# Altium footprint library LCM.PcbLib: 3 footprints
Each footprint in its own frame and in the unit in brackets; x right, y up, seen from the top. Pads: shape width x height; smd on the part's side, far side on the other; paste and mask are expansions set on the pad; w line width, h text height; cw(c..) or ccw(c..) is an arc to the next point about the centre after c.
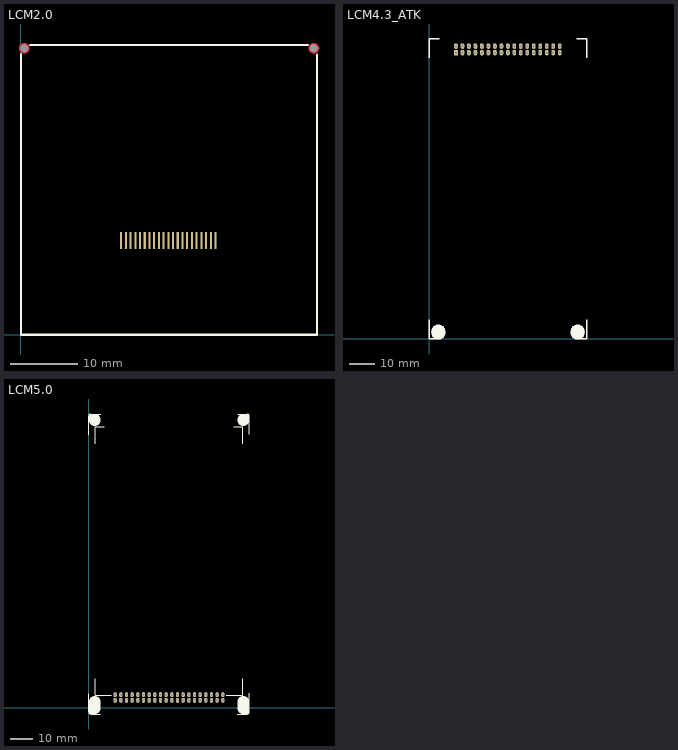
[diagram p0: the footprints below, top view; thin cyan lines are the x and y axes]

## LCM2.0 [mm]
pads (21):
  rect 0.3x2.5 smd: 1(28.9,14) 2(28.2,14) 3(27.5,14) 4(26.8,14) 5(26.1,14) 6(25.4,14) 7(24.7,14) 8(24,14) 9(23.3,14) 10(22.6,14) 11(21.9,14) 12(21.2,14) 13(20.5,14) 14(19.8,14) 15(19.1,14) 16(18.4,14) 17(17.7,14) 18(17,14) 19(16.3,14) 20(15.6,14) 21(14.9,14)
via 43.5,42.5 diameter 1.1 hole 1.1
via 0.5,42.5 diameter 1.1 hole 1.1
Top Layer:
  pour cut-out: 43.5,43.262 43.575,43.262 43.722,43.233 43.861,43.175 43.986,43.092 44.092,42.986 44.175,42.861 44.233,42.722 44.262,42.575 44.262,42.5 44.262,42.425 44.233,42.278 44.175,42.139 44.092,42.014 43.986,41.908 43.861,41.825 43.722,41.767 43.575,41.738 43.5,41.738 43.425,41.738 43.278,41.767 43.139,41.825 43.014,41.908 42.908,42.014 42.825,42.139 42.767,42.278 42.738,42.425 42.738,42.5 42.738,42.575 42.767,42.722 42.825,42.861 42.908,42.986 43.014,43.092 43.139,43.175 43.278,43.233 43.425,43.262
  pour cut-out: 0.5,43.262 0.575,43.262 0.722,43.233 0.861,43.175 0.986,43.092 1.092,42.986 1.175,42.861 1.233,42.722 1.262,42.575 1.262,42.5 1.262,42.425 1.233,42.278 1.175,42.139 1.092,42.014 0.986,41.908 0.861,41.825 0.722,41.767 0.575,41.738 0.5,41.738 0.425,41.738 0.278,41.767 0.139,41.825 0.014,41.908 -0.092,42.014 -0.175,42.139 -0.233,42.278 -0.262,42.425 -0.262,42.5 -0.262,42.575 -0.233,42.722 -0.175,42.861 -0.092,42.986 0.014,43.092 0.139,43.175 0.278,43.233 0.425,43.262
Bottom Layer:
  pour cut-out: 43.5,43.262 43.575,43.262 43.722,43.233 43.861,43.175 43.986,43.092 44.092,42.986 44.175,42.861 44.233,42.722 44.262,42.575 44.262,42.5 44.262,42.425 44.233,42.278 44.175,42.139 44.092,42.014 43.986,41.908 43.861,41.825 43.722,41.767 43.575,41.738 43.5,41.738 43.425,41.738 43.278,41.767 43.139,41.825 43.014,41.908 42.908,42.014 42.825,42.139 42.767,42.278 42.738,42.425 42.738,42.5 42.738,42.575 42.767,42.722 42.825,42.861 42.908,42.986 43.014,43.092 43.139,43.175 43.278,43.233 43.425,43.262
  pour cut-out: 0.5,43.262 0.575,43.262 0.722,43.233 0.861,43.175 0.986,43.092 1.092,42.986 1.175,42.861 1.233,42.722 1.262,42.575 1.262,42.5 1.262,42.425 1.233,42.278 1.175,42.139 1.092,42.014 0.986,41.908 0.861,41.825 0.722,41.767 0.575,41.738 0.5,41.738 0.425,41.738 0.278,41.767 0.139,41.825 0.014,41.908 -0.092,42.014 -0.175,42.139 -0.233,42.278 -0.262,42.425 -0.262,42.5 -0.262,42.575 -0.233,42.722 -0.175,42.861 -0.092,42.986 0.014,43.092 0.139,43.175 0.278,43.233 0.425,43.262
Top Overlay:
  lines w0.3: 0,41.656 0,0 44,0 44,41.598 ; 1.344,43 42.598,43
Multi-Layer:
  pour cut-out: 43.434,43.18
  pour cut-out: 0.434,43.18

## LCM4.3_ATK [mm]
pads (34):
  rect 1.5x2.2 hole 1: 1(10.414,111.887)
  oval 1.5x2.2 hole 1: 2(10.414,114.427) 3(12.954,111.887) 4(12.954,114.427) 5(15.494,111.887) 6(15.494,114.427) 7(18.034,111.887) 8(18.034,114.427) 9(20.574,111.887) 10(20.574,114.427) 11(23.114,111.887) 12(23.114,114.427) 13(25.654,111.887) 14(25.654,114.427) 15(28.194,111.887) 16(28.194,114.427) 17(30.734,111.887) 18(30.734,114.427) 19(33.274,111.887) 20(33.274,114.427) 21(35.814,111.887) 22(35.814,114.427) 23(38.354,111.887) 24(38.354,114.427) 25(40.894,111.887) 26(40.894,114.427) 27(43.434,111.887) 28(43.434,114.427) 29(45.974,111.887) 30(45.974,114.427) 31(48.514,111.887) 32(48.514,114.427) 33(51.054,111.887) 34(51.054,114.427)
Top Overlay:
  circle w0.025: c3.56,2.54 r2.7
  circle w0.025: c58.035,2.54 r2.7
  region: 0.86,2.54 0.86,2.363 0.906,2.012 0.998,1.67 1.133,1.343 1.31,1.037 1.526,0.756 1.776,0.506 2.057,0.29 2.363,0.113 2.69,-0.022 3.032,-0.114 3.383,-0.16 3.56,-0.16 3.737,-0.16 4.088,-0.114 4.43,-0.022 4.757,0.113 5.063,0.29 5.344,0.506 5.594,0.756 5.81,1.037 5.987,1.343 6.122,1.67 6.214,2.012 6.26,2.363 6.26,2.54 6.26,2.717 6.214,3.068 6.122,3.41 5.987,3.737 5.81,4.043 5.594,4.324 5.344,4.574 5.063,4.79 4.757,4.967 4.43,5.102 4.088,5.194 3.737,5.24 3.56,5.24 3.383,5.24 3.032,5.194 2.69,5.102 2.363,4.967 2.057,4.79 1.776,4.574 1.526,4.324 1.31,4.043 1.133,3.737 0.998,3.41 0.906,3.068 0.86,2.717
  region: 55.335,2.54 55.335,2.363 55.381,2.012 55.473,1.67 55.608,1.343 55.785,1.037 56.001,0.756 56.251,0.506 56.532,0.29 56.838,0.113 57.165,-0.022 57.507,-0.114 57.858,-0.16 58.035,-0.16 58.212,-0.16 58.563,-0.114 58.905,-0.022 59.232,0.113 59.538,0.29 59.819,0.506 60.069,0.756 60.285,1.037 60.462,1.343 60.597,1.67 60.689,2.012 60.735,2.363 60.735,2.54 60.735,2.717 60.689,3.068 60.597,3.41 60.462,3.737 60.285,4.043 60.069,4.324 59.819,4.574 59.538,4.79 59.232,4.967 58.905,5.102 58.563,5.194 58.212,5.24 58.035,5.24 57.858,5.24 57.507,5.194 57.165,5.102 56.838,4.967 56.532,4.79 56.251,4.574 56.001,4.324 55.785,4.043 55.608,3.737 55.473,3.41 55.381,3.068 55.335,2.717
  lines w0.508: 0.001,7.326 0.001,0 3.851,0 ; 0.001,109.895 0.001,117.221 3.851,117.221 ; 57.746,0 61.596,0 61.596,7.326 ; 57.746,117.221 61.596,117.221 61.596,109.895
Bottom Overlay:
  circle w0.025: c58.035,2.54 r2.7
  circle w0.025: c3.56,2.54 r2.7
  region: 55.335,2.54 55.335,2.363 55.381,2.012 55.473,1.67 55.608,1.343 55.785,1.037 56.001,0.756 56.251,0.506 56.532,0.29 56.838,0.113 57.165,-0.022 57.507,-0.114 57.858,-0.16 58.035,-0.16 58.212,-0.16 58.563,-0.114 58.905,-0.022 59.232,0.113 59.538,0.29 59.819,0.506 60.069,0.756 60.285,1.037 60.462,1.343 60.597,1.67 60.689,2.012 60.735,2.363 60.735,2.54 60.735,2.717 60.689,3.068 60.597,3.41 60.462,3.737 60.285,4.043 60.069,4.324 59.819,4.574 59.538,4.79 59.232,4.967 58.905,5.102 58.563,5.194 58.212,5.24 58.035,5.24 57.858,5.24 57.507,5.194 57.165,5.102 56.838,4.967 56.532,4.79 56.251,4.574 56.001,4.324 55.785,4.043 55.608,3.737 55.473,3.41 55.381,3.068 55.335,2.717
  region: 0.86,2.54 0.86,2.363 0.906,2.012 0.998,1.67 1.133,1.343 1.31,1.037 1.526,0.756 1.776,0.506 2.057,0.29 2.363,0.113 2.69,-0.022 3.032,-0.114 3.383,-0.16 3.56,-0.16 3.737,-0.16 4.088,-0.114 4.43,-0.022 4.757,0.113 5.063,0.29 5.344,0.506 5.594,0.756 5.81,1.037 5.987,1.343 6.122,1.67 6.214,2.012 6.26,2.363 6.26,2.54 6.26,2.717 6.214,3.068 6.122,3.41 5.987,3.737 5.81,4.043 5.594,4.324 5.344,4.574 5.063,4.79 4.757,4.967 4.43,5.102 4.088,5.194 3.737,5.24 3.56,5.24 3.383,5.24 3.032,5.194 2.69,5.102 2.363,4.967 2.057,4.79 1.776,4.574 1.526,4.324 1.31,4.043 1.133,3.737 0.998,3.41 0.906,3.068 0.86,2.717
Keep-Out Layer:
  board cut-out: 2.047,2.54 2.047,2.391 2.105,2.099 2.219,1.823 2.385,1.575 2.595,1.365 2.843,1.199 3.119,1.085 3.411,1.027 3.56,1.027 3.709,1.027 4.001,1.085 4.277,1.199 4.525,1.365 4.735,1.575 4.901,1.823 5.015,2.099 5.073,2.391 5.073,2.54 5.073,2.689 5.015,2.981 4.901,3.257 4.735,3.505 4.525,3.715 4.277,3.881 4.001,3.995 3.709,4.053 3.56,4.053 3.411,4.053 3.119,3.995 2.843,3.881 2.595,3.715 2.385,3.505 2.219,3.257 2.105,2.981 2.047,2.689
  board cut-out: 56.522,2.54 56.522,2.391 56.58,2.099 56.694,1.823 56.86,1.575 57.07,1.365 57.318,1.199 57.594,1.085 57.886,1.027 58.035,1.027 58.184,1.027 58.476,1.085 58.752,1.199 59,1.365 59.21,1.575 59.376,1.823 59.49,2.099 59.548,2.391 59.548,2.54 59.548,2.689 59.49,2.981 59.376,3.257 59.21,3.505 59,3.715 58.752,3.881 58.476,3.995 58.184,4.053 58.035,4.053 57.886,4.053 57.594,3.995 57.318,3.881 57.07,3.715 56.86,3.505 56.694,3.257 56.58,2.981 56.522,2.689
Keep-Out Layer:
  circle w0.025: c3.56,2.54 r1.5
  circle w0.025: c58.035,2.54 r1.5
  circle w0.025: c58.035,2.54 r1.5
  circle w0.025: c3.56,2.54 r1.5
3D body: height 12, standoff 0, extent 9.068,108.75 52.413,115.773
3D body: height 12, standoff 10, extent -0.126,-0.127 61.723,117.348

## LCM5.0 [mm]
pads (40):
  oval 1.5x2.2 hole 1: 1(11.87,3.43) 2(11.87,5.97) 3(14.41,3.43) 4(14.41,5.97) 5(16.95,3.43) 6(16.95,5.97) 7(19.49,3.43) 8(19.49,5.97) 9(22.03,3.43) 10(22.03,5.97) 11(24.57,3.43) 12(24.57,5.97) 13(27.11,3.43) 14(27.11,5.97) 15(29.65,3.43) 16(29.65,5.97) 17(32.19,3.43) 18(32.19,5.97) 19(34.73,3.43) 20(34.73,5.97) 21(37.27,3.43) 22(37.27,5.97) 23(39.81,3.43) 24(39.81,5.97) 25(42.35,3.43) 26(42.35,5.97) 27(44.89,3.43) 28(44.89,5.97) 29(47.43,3.43) 30(47.43,5.97) 31(49.97,3.43) 32(49.97,5.97) 33(52.51,3.43) 34(52.51,5.97) 35(55.05,3.43) 36(55.05,5.97) 37(57.59,3.43) 38(57.59,5.97) 39(60.13,3.43) 40(60.13,5.97)
Top Overlay:
  region: 0,-1.8 0,-1.889 0.035,-2.063 0.102,-2.226 0.201,-2.374 0.326,-2.499 0.474,-2.598 0.637,-2.665 0.811,-2.7 0.9,-2.7 2.7,-2.7 2.7,-0.2 0,-0.2 0,-0.254
  region: 71,-2.7 71.098,-2.7 71.292,-2.662 71.474,-2.586 71.637,-2.477 71.777,-2.337 71.886,-2.174 71.962,-1.992 72,-1.798 72,-1.7 72,-0.2 69.3,-0.2 69.3,-2.7 69.596,-2.7
  region: 72,130.9 72,130.989 71.965,131.163 71.898,131.326 71.799,131.474 71.674,131.599 71.526,131.698 71.363,131.765 71.189,131.8 71.1,131.8 69.3,131.8 69.3,129.3 72,129.3 72,129.794
  region: 1,131.8 0.902,131.8 0.708,131.762 0.526,131.686 0.363,131.577 0.223,131.437 0.114,131.274 0.038,131.092 0,130.898 0,130.8 0,129.3 2.7,129.3 2.7,131.8
  lines w0.508: 0,6.488 0,-1.8 ccw(c0.9,-1.8) 0.9,-2.7 5.281,-2.7 ; 0,122.513 0,130.8 cw(c1,130.8) 1,131.8 5.381,131.8 ; 2.9,13.131 2.9,5.6 10.16,5.6 ; 2.9,118.569 2.9,126.1 7.038,126.1 ; 61.722,5.6 69.1,5.6 69.1,13.131 ; 64.963,126.1 69.1,126.1 69.1,118.569 ; 66.619,-2.7 71,-2.7 ccw(c71,-1.7) 72,-1.7 72,6.588 ; 66.719,131.8 71.1,131.8 cw(c71.1,130.9) 72,130.9 72,122.613
  lines w5: 2.7,-0.2 2.7,2.9 ; 2.7,128.9 2.7,129.3 ; 69.3,-0.2 69.3,2.9 ; 69.3,128.9 69.3,129.3
Bottom Overlay:
  lines w5: 2.7,-0.2 2.7,2.9 ; 2.7,128.9 2.7,129.3 ; 69.3,-0.2 69.3,2.9 ; 69.3,128.9 69.3,129.3
Keep-Out Layer:
  drawing of 4 lines, arcs and shapes, not listed
Keep-Out Layer:
  lines w3: 2.7,-0.2 2.7,2.9 ; 2.7,128.9 2.7,129.3 ; 69.3,-0.2 69.3,2.9 ; 69.3,128.9 69.3,129.3